# EAGLE library part _REL_24V_2P_(AGQ200A24Z) (library SamacSys_Parts)
Low Signal Relays - PCB 2 Form C, 24VDC 30VDC SMD 24V Source: Datasheet <https://www3.panasonic.biz/ac/e_download/control/relay/signal/catalog/mech_eng_gq.pdf>
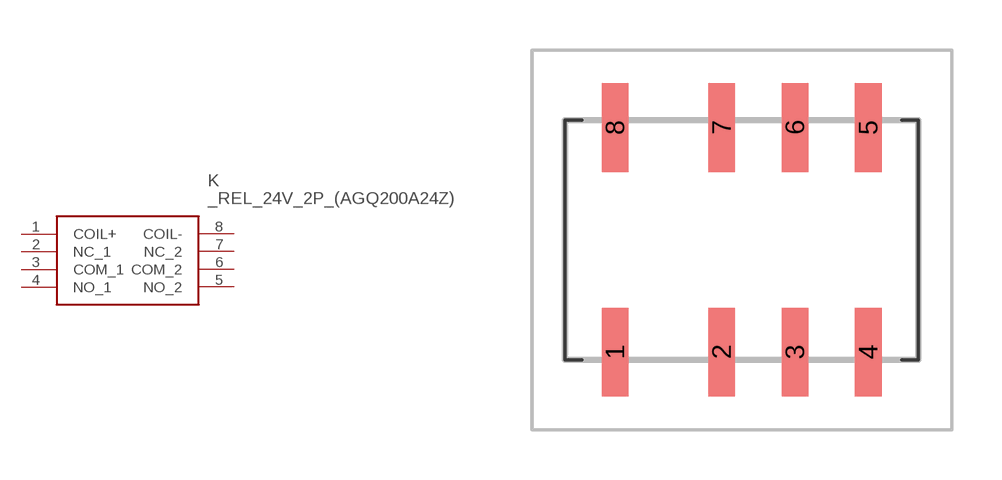
[diagram p11: symbol with the pads of AGQ200A24Z; footprint AGQ200A24Z]

Designator prefix K

## _REL_24V_2P_(AGQ200A24Z) (DESCRIPTION: Low Signal Relays - PCB 2 Form C, 24VDC 30VDC SMD 24V; HEIGHT: 5.4mm; MANUFACTURER_NAME: Panasonic; MANUFACTURER_PART_NUMBER: AGQ200A24Z; MOUSER_PART_NUMBER: 769-AGQ200A24Z; MOUSER_PRICE-STOCK: https://www.mouser.co.uk/ProductDetail/Panasonic-Industrial-Devices/AGQ200A24Z?qs=QdPAKMqHa0kDPjcWCtkaSQ%3D%3D)  [AGQ200A24Z]
1  COIL+
2  NC_1
3  COM_1
4  NO_1
5  NO_2
6  COM_2
7  NC_2
8  COIL-

## Footprint AGQ200A24Z (pad centres in mm)
AGQ200A24Z-2
smd 0.8 x 2.66: 1 -3.8,-3.37; 2 -0.6,-3.37; 3 1.6,-3.37; 4 3.8,-3.37; 5 3.8,3.37; 6 1.6,3.37; 7 -0.6,3.37; 8 -3.8,3.37